# EAGLE library part MOLEX_HDMI_208658-1051 (library New_Parts)
1.0 HDMI R/A HEADER ASSY (I/M TYPE) Source: Datasheet
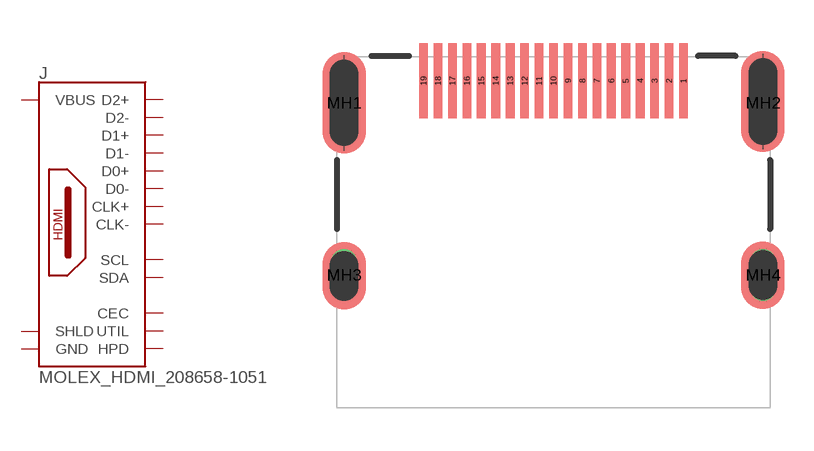
[diagram p0: symbol with the pads of MOLEX_HDMI_208658-1051; footprint MOLEX_HDMI_208658-1051]

Designator prefix J

## MOLEX_HDMI_208658-1051  [MOLEX_HDMI_208658-1051]
1  D2+
2  GND
3  D2-
4  D1+
5  GND
6  D1-
7  D0+
8  GND
9  D0-
10  CLK+
11  GND
12  CLK-
13  CEC
14  UTIL
15  SCL
16  SDA
17  GND
18  VBUS
19  HPD
MH1  SHLD
MH2  SHLD
MH3  SHLD
MH4  SHLD

## Footprint MOLEX_HDMI_208658-1051 (pad centres in mm)
208658-1051-1
smd 0.3 x 2.6: 1 4.5,4.235; 2 4,4.235; 3 3.5,4.235; 4 3,4.235; 5 2.5,4.235; 6 2,4.235; 7 1.5,4.235; 8 1,4.235; 9 0.5,4.235; 10 0,4.235; 11 -0.5,4.235; 12 -1,4.235; 13 -1.5,4.235; 14 -2,4.235; 15 -2.5,4.235; 16 -3,4.235; 17 -3.5,4.235; 18 -4,4.235; 19 -4.5,4.235
drill 0.4 long: MH1 -7.25,3.475; MH2 7.25,3.475; MH3 -7.25,-2.485; MH4 7.25,-2.485